# Altium footprint library Schottky Diode SMC.PcbLib: 1 footprints
Each footprint in its own frame and in the unit in brackets; x right, y up, seen from the top. Pads: shape width x height; smd on the part's side, far side on the other; paste and mask are expansions set on the pad; w line width, h text height; cw(c..) or ccw(c..) is an arc to the next point about the centre after c.
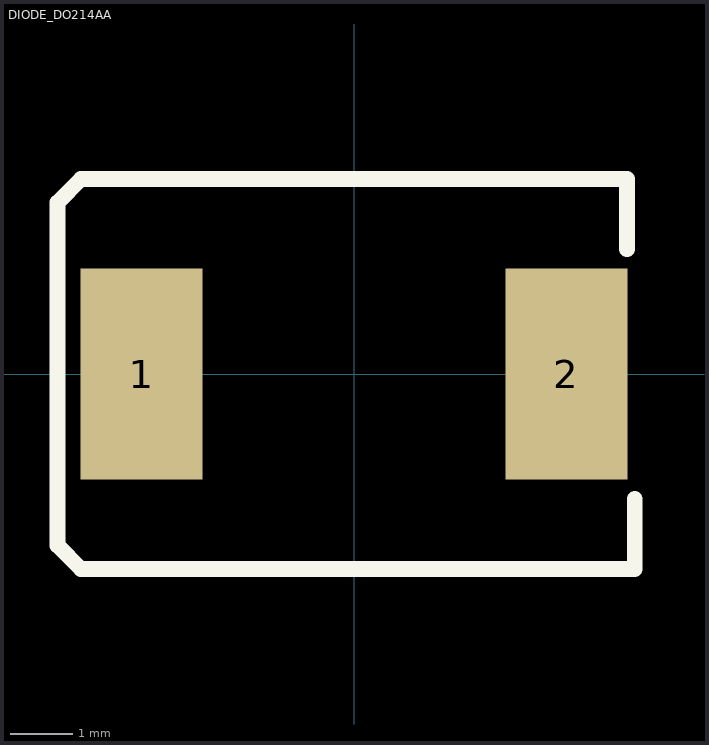
[diagram p0: the footprint, top view; thin cyan lines are the x and y axes]

## DIODE_DO214AA [mm]
pads (2):
  rect 1.96x3.39 smd: 1(-3.405,0) 2(3.405,0)
Top Overlay:
  lines w0.254: 4.375,2 4.375,3.125 -4.25,3.125 -4.375,3.125 -4.75,2.75 -4.75,-2.75 -4.375,-3.125 4.5,-3.125 4.5,-2
3D body "DIODE_DO214AA.stp": height 2.49, standoff 0, extent -2.794,-1.968 2.794,1.968